# EAGLE library part PAT9125EL (library Limbo)
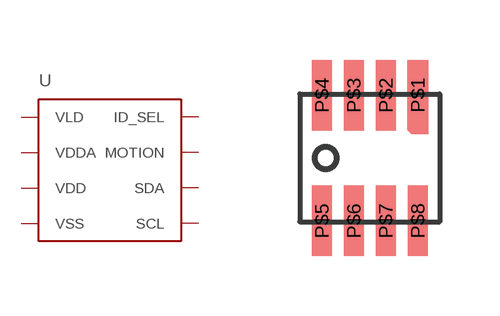
[diagram p0: symbol with the pads of PAT9125EL; footprint PAT9125EL]

Designator prefix -

## PAT9125EL  [PAT9125EL]
P$1  VLD
P$2  VDDA
P$3  VDD
P$4  VSS
P$5  SCL  in
P$6  SDA  in
P$7  MOTION  in
P$8  ID_SEL  in

## Footprint PAT9125EL (pad centres in mm)
smd 0.5 x 1.756: P$1 2.95,3.178
smd 0.5 x 1.766: P$2 2.15,3.173; P$3 1.35,3.173; P$4 0.55,3.173; P$5 0.55,0.027; P$6 1.35,0.027; P$7 2.15,0.027; P$8 2.95,0.027